# Altium footprint library Inductors.PcbLib: 50 footprints (part 1 of 4)
Each footprint in its own frame and in the unit in brackets; x right, y up, seen from the top. Pads: shape width x height; smd on the part's side, far side on the other; paste and mask are expansions set on the pad; w line width, h text height; cw(c..) or ccw(c..) is an arc to the next point about the centre after c.
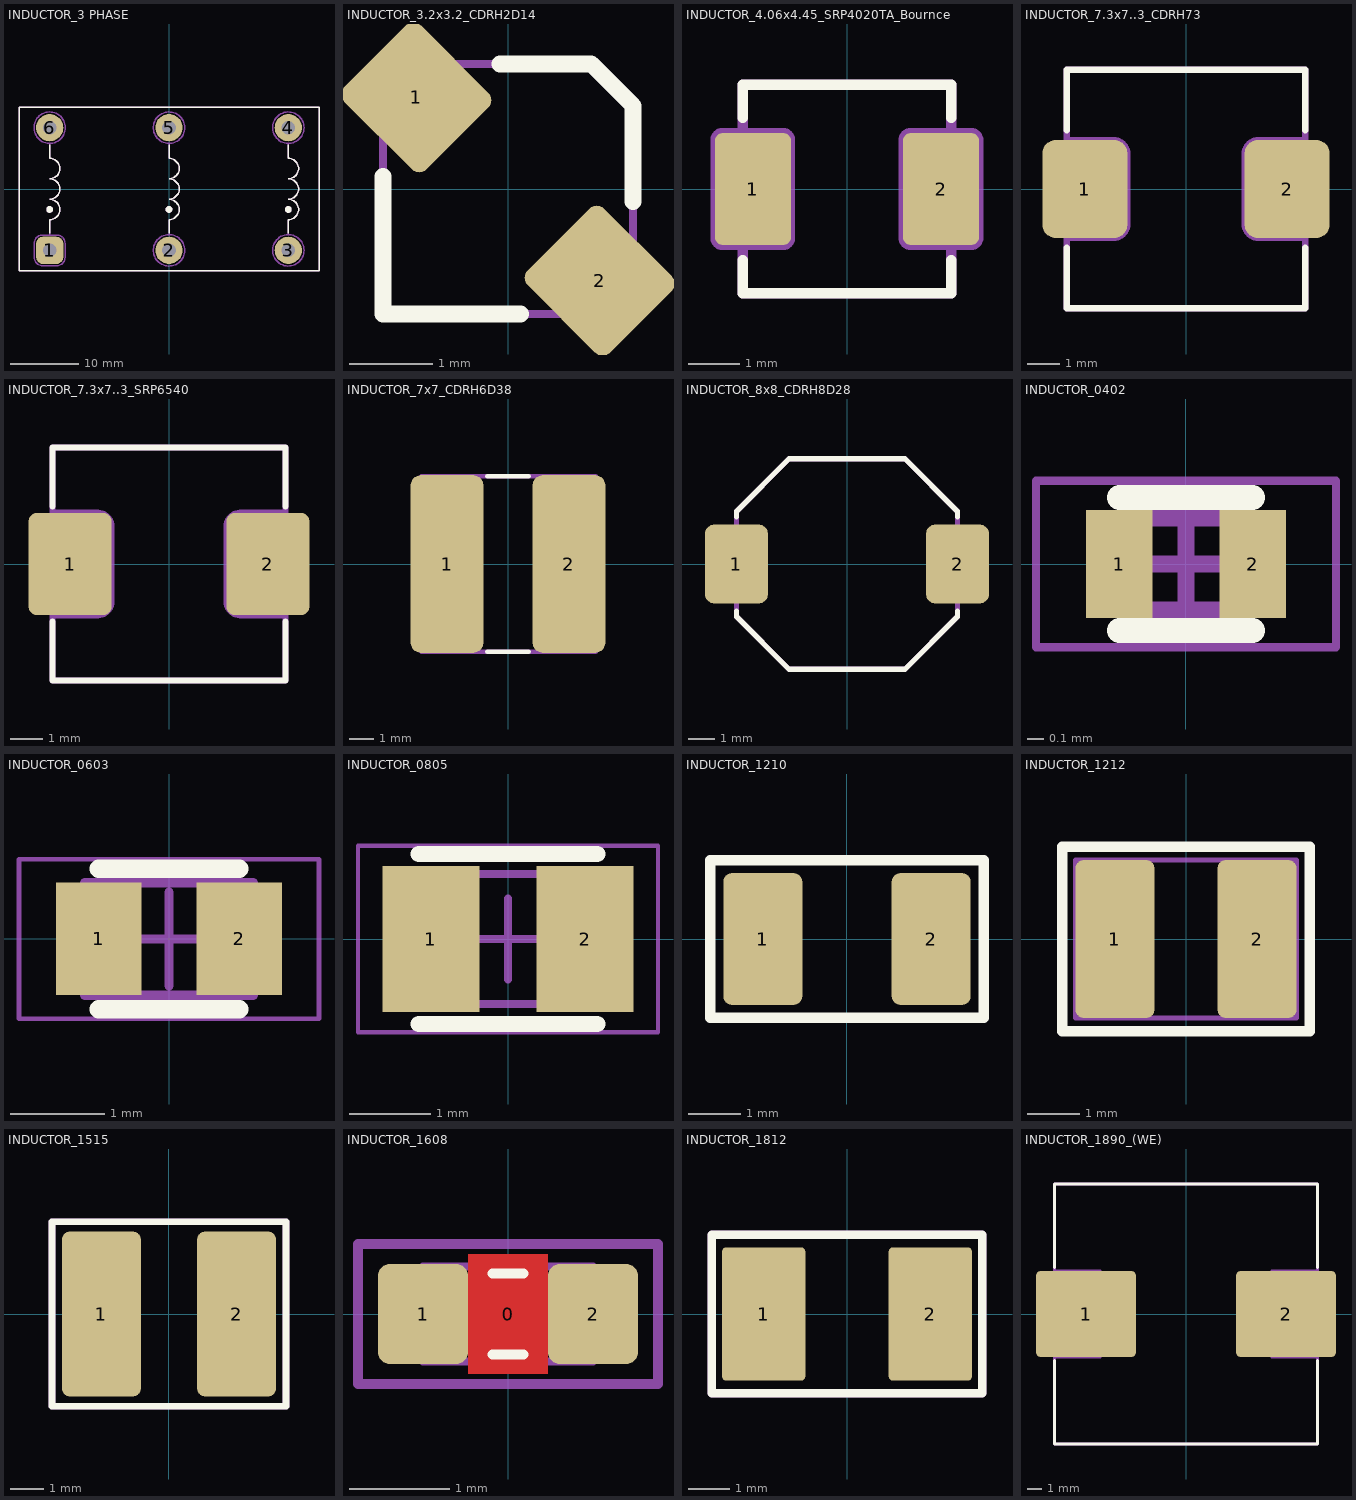
[diagram p0: the footprints below, top view; thin cyan lines are the x and y axes]

## INDUCTOR_3 PHASE [mm]
pads (6):
  rrect50% 4x4 hole 2: 1(-17.5,-9)
  round 4 hole 2: 2(0,-9) 3(17.5,-9) 4(17.5,9) 5(0,9) 6(-17.5,9)
Top Overlay:
  circle w0.5: c-17.5,-3 r0.25
  circle w0.5: c0,-3 r0.25
  circle w0.5: c17.5,-3 r0.25
  lines w0.2: -17.5,-6.5 -17.5,-4.5 ccw(c-17.5,-3) -17.5,-1.5 ccw(c-17.5,0) -17.5,1.5 ccw(c-17.5,3) -17.5,4.5 -17.5,6.5 ; 0,-6.5 0,-4.5 ccw(c0,-3) 0,-1.5 ccw(c0,0) 0,1.5 ccw(c0,3) 0,4.5 0,6.5 ; 17.5,-6.5 17.5,-4.5 ccw(c17.5,-3) 17.5,-1.5 ccw(c17.5,0) 17.5,1.5 ccw(c17.5,3) 17.5,4.5 17.5,6.5 ; -22,-12 22,-12 22,12 -22,12 -22,-12
Mechanical 8:
  circle w0.5: c17.5,-3 r0.25
  circle w0.5: c0,-3 r0.25
  circle w0.5: c-17.5,-3 r0.25
  circle w0.2: c-17.5,9 r2.3
  circle w0.2: c0,9 r2.3
  circle w0.2: c17.5,9 r2.3
  circle w0.2: c17.5,-9 r2.3
  circle w0.2: c0,-9 r2.3
  lines w0.2: -17.5,6.7 -17.5,4.5 cw(c-17.5,3) -17.5,1.5 cw(c-17.5,0) -17.5,-1.5 cw(c-17.5,-3) -17.5,-4.5 -17.5,-6.75 ; 0,-6.7 0,-4.5 ccw(c0,-3) 0,-1.5 ccw(c0,0) 0,1.5 ccw(c0,3) 0,4.5 0,6.7 ; 17.5,-6.7 17.5,-4.5 ccw(c17.5,-3) 17.5,-1.5 ccw(c17.5,0) 17.5,1.5 ccw(c17.5,3) 17.5,4.5 17.5,6.7 ; -17.5,-6.75 -16.469,-6.75 cw(c-16.469,-7.969) -15.25,-7.969 -15.25,-10.031 cw(c-16.469,-10.031) -16.469,-11.25 -18.531,-11.25 cw(c-18.531,-10.031) -19.75,-10.031 -19.75,-7.969 cw(c-18.531,-7.969) -18.531,-6.75 -17.5,-6.75 ; -22,-12 -22,12 22,12 22,-12 -22,-12
  text "1" at -18.15,-10 h4
  text "'.Designator'" at -14,-2 h6
3D body "CM_3phase_Epcos_B82745S6123N002.stp": height 43, standoff -3, extent -22,-12 22,12

## INDUCTOR_3.2x3.2_CDRH2D14 [mm]
pads (2):
  rrect20% 1.4x1.3 smd rot 135: 1(-1.1,1.1) 2(1.1,-1.1)
Top Overlay:
  lines w0.2: -1.5,0.15 -1.5,-1.5 0.15,-1.5 ; -0.1,1.5 1,1.5 1.5,1 1.5,-0.15
Mechanical 8:
  lines w0.1: -1.5,-1.5 1,-1.5 1.5,-1 1.5,1 1,1.5 -1,1.5 -1.5,1 -1.5,-1.5
  text ".Designator" at -1.15,-0.35 h1.5
3D body: height 1.55, standoff 0.01, extent -1.5,-1.5 1.5,1.5

## INDUCTOR_4.06x4.45_SRP4020TA_Bournce [mm]
pads (2):
  rrect20% 1.5x2.2 smd paste-0.1: 1(-1.85,0) 2(1.85,0)
Top Overlay:
  lines w0.2: -2.05,-1.4 -2.05,-2.05 2.05,-2.05 2.05,-1.4 ; -2.05,1.4 -2.05,2.05 2.05,2.05 2.05,1.4
Mechanical 8:
  lines w0.2: -2.05,-1.1 -2.05,-2.05 2.05,-2.05 2.05,-1.1 ; -2.05,1.1 -2.05,2.05 2.05,2.05 2.05,1.1 ; -2.588,-0.962 ccw(c-2.45,-0.962) -2.45,-1.1 -1.256,-1.1 ccw(c-1.256,-0.962) -1.118,-0.962 -1.118,0.962 ccw(c-1.256,0.962) -1.256,1.1 -2.45,1.1 ccw(c-2.45,0.962) -2.588,0.962 -2.588,-0.962 ; 1.112,-0.962 ccw(c1.25,-0.962) 1.25,-1.1 2.444,-1.1 ccw(c2.444,-0.962) 2.582,-0.962 2.582,0.962 ccw(c2.444,0.962) 2.444,1.1 1.25,1.1 ccw(c1.25,0.962) 1.112,0.962 1.112,-0.962
  text ".Designator" at 0.5,-1.6 h2
3D body: height 1.8, standoff 0.01, extent -2.05,-2.05 2.05,2.05

## INDUCTOR_7.3x7..3_CDRH73 [mm]
pads (2):
  rrect30% 2.6x3 smd paste-0.1: 1(-3.1,0) 2(3.1,0)
Top Overlay:
  lines w0.2: -3.65,-1.8 -3.65,-3.65 3.65,-3.65 3.65,-1.8 ; -3.65,1.8 -3.65,3.65 3.65,3.65 3.65,1.8
Mechanical 8:
  lines w0.2: -3.65,-1.5 -2.232,-1.5 ccw(c-2.232,-1.068) -1.8,-1.068 -1.8,1.068 ccw(c-2.232,1.068) -2.232,1.5 -3.65,1.5 ; 3.65,-1.5 2.232,-1.5 cw(c2.232,-1.068) 1.8,-1.068 1.8,1.068 cw(c2.232,1.068) 2.232,1.5 3.65,1.5 ; -3.65,-3.65 -3.65,3.65 3.65,3.65 3.65,-3.65 -3.65,-3.65
  text ".Designator" at 0.85,-3.25 h3.5
3D body: height 3.2, standoff 0.01, extent -3.65,-3.65 3.65,3.65

## INDUCTOR_7.3x7..3_SRP6540 [mm]
pads (2):
  rrect20% 2.6x3.2 smd paste-0.1: 1(-3.1,0) 2(3.1,0)
Top Overlay:
  lines w0.2: -3.65,-1.8 -3.65,-3.65 3.65,-3.65 3.65,-1.8 ; -3.65,1.8 -3.65,3.65 3.65,3.65 3.65,1.8
Mechanical 8:
  lines w0.2: -3.65,-1.6 -2.232,-1.6 ccw(c-2.232,-1.168) -1.8,-1.168 -1.8,1.168 ccw(c-2.232,1.168) -2.232,1.6 -3.65,1.6 ; 3.65,-1.6 2.232,-1.6 cw(c2.232,-1.168) 1.8,-1.168 1.8,1.168 cw(c2.232,1.168) 2.232,1.6 3.65,1.6 ; -3.65,-3.65 -3.65,3.65 3.65,3.65 3.65,-3.65 -3.65,-3.65
  text ".Designator" at 0.85,-3.25 h3.5
3D body: height 4, standoff 0.01, extent -3.65,-3.65 3.65,3.65

## INDUCTOR_7x7_CDRH6D38 [mm]
pads (2):
  rrect30% 3x7.3 smd paste-0.1: 1(-2.5,0) 2(2.5,0)
Top Overlay:
  lines w0.2: -0.85,-3.6 0.85,-3.6 ; -0.85,3.6 0.85,3.6
Mechanical 8:
  lines w0.2: -3.55,-3.6 3.6,-3.6 3.6,3.6 -3.55,3.6 -3.55,-3.6
  text ".Designator" at -3.1,-0.95 h2.8
3D body: height 3.5, standoff 0.01, extent -3.4,-3.4 3.4,3.4

## INDUCTOR_8x8_CDRH8D28 [mm]
pads (2):
  rrect30% 2.4x3 smd paste-0.1: 1(-4.2,0) 2(4.2,0)
Top Overlay:
  lines w0.2: -4.2,-1.8 -4.2,-2 -2.2,-4 2.2,-4 4.2,-2 4.2,-1.8 ; -4.2,1.8 -4.2,2 -2.2,4 2.2,4 4.2,2 4.2,1.8
Mechanical 8:
  lines w0.2: -4.2,-2 -2.2,-4 2.2,-4 4.2,-2 4.2,2 2.2,4 -2.2,4 -4.2,2 -4.2,-2
  text ".Designator" at -3.45,-0.95 h3
3D body: height 3.5, standoff 0.01, extent -4.2,-4 4.2,4

## INDUCTOR_0402 [mm] "Chip Inductor, 2-Leads, Body 1,00x0,55mm, IPC Medium Density"
height 0.6
pads (2):
  rect 0.4x0.65 smd: 1(-0.4,0) 2(0.4,0)
Top Overlay:
  lines w0.15: -0.4,-0.4 0.4,-0.4 ; -0.4,0.4 0.4,0.4
Mechanical 13:
  lines w0.1: -0.5,-0.275 -0.5,0.275 0.5,0.275 0.5,-0.275 -0.5,-0.275
Mechanical 15:
  lines w0.05: -0.9,-0.5 -0.9,0.5 0.9,0.5 0.9,-0.5 -0.9,-0.5
  lines w0.1: -0.275,0 0.275,0 ; 0,-0.275 0,0.275
3D body "Coilcraft-0402ME.step": height 0.51, standoff -0.01, extent -0.51,-0.381 0.51,0.381

## INDUCTOR_0603 [mm] "Chip Inductor, 2-Leads, Body 1,60x1,00mm, IPC Medium Density"
height 1
pads (2):
  rect 0.91x1.2 smd: 1(-0.75,0) 2(0.75,0)
Top Overlay:
  lines w0.2: -0.75,-0.75 0.75,-0.75 ; -0.75,0.75 0.75,0.75
Mechanical 13:
  lines w0.1: -0.9,-0.6 0.9,-0.6 0.9,0.6 -0.9,0.6 -0.9,-0.6
Mechanical 15:
  lines w0.05: -1.6,-0.85 1.6,-0.85 1.6,0.85 -1.6,0.85 -1.6,-0.85
  lines w0.1: -0.5,0 0.5,0 ; 0,-0.5 0,0.5
3D body "Coilcraft-0603ME.step": height 0.83, standoff -0.01, extent -0.9,-0.589 0.9,0.589

## INDUCTOR_0805 [mm] "Chip Inductor, 2-Leads, Body 2,15x1,50mm, IPC Medium Density"
height 1.3
pads (2):
  rect 1.2x1.8 smd: 1(-0.95,0) 2(0.95,0)
Top Overlay:
  lines w0.2: -1.1,-1.05 1.1,-1.05 ; -1.1,1.05 1.1,1.05
Mechanical 13:
  lines w0.1: -1.15,-0.8 -1.15,0.8 1.15,0.8 1.15,-0.8 -1.15,-0.8
Mechanical 15:
  lines w0.05: -1.85,-1.15 -1.85,1.15 1.85,1.15 1.85,-1.15 -1.85,-1.15
  lines w0.1: -0.5,0 0.5,0 ; 0,-0.5 0,0.5
3D body "Coilcraft-0805HS.step": height 1.44, standoff -0.01, extent -1.09,-0.759 1.09,0.759

## INDUCTOR_1210 [mm]
pads (2):
  rrect20% 1.5x2.5 smd: 1(-1.6,0) 2(1.6,0)
Top Overlay:
  lines w0.2: -2.6,-1.5 2.6,-1.5 2.6,1.5 -2.6,1.5 -2.6,0 -2.6,-1.5
Mechanical 8:
  lines w0.1: -2.6,-1.5 2.6,-1.5 2.6,1.5 -2.6,1.5 -2.6,-1.5
  text ".Designator" at -2.35,-0.65 h2
3D body "3225.STEP": height 1.9, standoff 0, extent -1.6,-1.25 1.6,1.25

## INDUCTOR_1212 [mm]
pads (2):
  rrect20% 1.5x3 smd: 1(-1.35,0) 2(1.35,0)
Top Overlay:
  lines w0.2: -2.35,-1.75 -2.35,1.75 2.35,1.75 2.35,-1.75 -2.35,-1.75
Mechanical 8:
  lines w0.1: -2.1,-1.5 -2.1,1.5 2.1,1.5 2.1,-1.5 -2.1,-1.5
  text ".Designator" at -1.9,-0.65 h2.4
3D body: height 1.4, standoff 0.01, extent -1.6,-1.5 1.6,1.5

## INDUCTOR_1515 [mm]
pads (2):
  rrect20% 2.4x5 smd: 1(-2.05,0) 2(2.05,0)
Top Overlay:
  lines w0.2: -3.55,-2.8 3.55,-2.8 3.55,2.8 -3.55,2.8 -3.55,0 -3.55,-2.8
Mechanical 8:
  lines w0.2: -3.55,-2.8 -3.55,0 -3.55,2.8 3.55,2.8 3.55,-2.8 -3.55,-2.8
  text ".Designator" at -3,-0.65 h2.5
3D body: height 5, standoff 0.01, extent -2.8,-2.5 2.8,2.5

## INDUCTOR_1608 [mm] "Chip bead, Body 1.6x0.8mm, 0603, IPC Medium Density"
height 0.8
pads (3):
  round 0.254 on Mech15: 0(0,0)
  rrect25% 0.9x1 smd: 1(-0.85,0) 2(0.85,0)
Top Layer:
  pour cut-out: -0.4,0.6 0.4,0.6 0.4,-0.6 -0.4,-0.6
Top Overlay:
  lines w0.102: -0.152,-0.406 0.152,-0.406 ; -0.152,0.406 0.152,0.406
Mechanical 13:
  lines w0.076: -0.85,-0.475 -0.85,0.475 0.85,0.475 0.85,-0.475 -0.85,-0.475
Mechanical 15:
  lines w0.1: -1.5,-0.7 -1.5,0.7 1.5,0.7 1.5,-0.7 -1.5,-0.7
3D body "INDC1608X80N.step": height 0.79, standoff -0.01, extent -0.8,-0.4 0.8,0.4

## INDUCTOR_1812 [mm]
pads (2):
  rrect10% 2x3.2 smd: 1(-2,0) 2(2,0)
Top Overlay:
  lines w0.2: -3.25,-1.9 -3.25,1.9 3.25,1.9 3.25,-1.9 -3.25,-1.9
Mechanical 8:
  lines w0.2: -3.25,-1.9 3.25,-1.9 3.25,1.9 -3.25,1.9 -3.25,-1.9
  text ".Designator" at -2.45,-0.85 h2.5
3D body "Coilcraft-1812FS.step": height 3.81, standoff -0.01, extent -2.935,-2.49 2.935,2.49

## INDUCTOR_1890_(WE) [mm]
pads (2):
  rrect10% 7x6 smd: 1(-7,0) 2(7,0)
Top Overlay:
  lines w0.2: -9.2,-3.25 -9.2,-9.1 9.2,-9.1 9.2,-3.25 ; -9.2,3.25 -9.2,9.1 9.2,9.1 9.2,3.25
Mechanical 8:
  lines w0.2: -9.2,-3 -6,-3 -6,3 -9.2,3 ; 9.2,-3 6,-3 6,3 9.2,3 ; -9.2,-9.1 9.2,-9.1 9.2,9.1 -9.2,9.1 -9.2,-9.1
  text ".Designator" at -4.95,-0.85 h4
3D body: height 9, standoff 0.01, extent -9.2,-9.1 9.2,9.1